# EAGLE library part TD6278*? (library SteMarie)
Toshiba 8-channel high voltage, high source current driver.
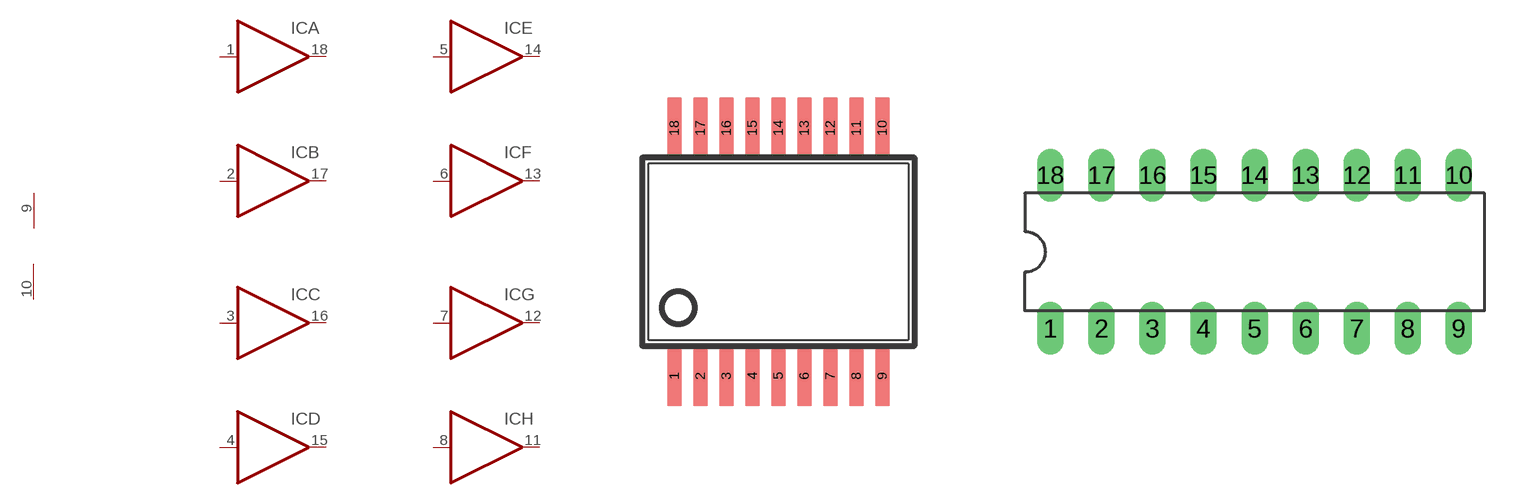
[diagram p4: symbol with the pads of SSOP18; footprints SSOP18, DIL18]

Designator prefix IC; gates A=BUFFER B=BUFFER C=BUFFER D=BUFFER PWR=PWR-VCC/GND E=BUFFER F=BUFFER G=BUFFER H=BUFFER

## TD62783AFNG (VINON: 5v), TD62784AFNG (VINON: 12v)  [SSOP18]
1  A:IN  in
2  B:IN  in
3  C:IN  in
4  D:IN  in
5  E:IN  in
6  F:IN  in
7  G:IN  in
8  H:IN  in
9  PWR:VCC  pwr
10  PWR:GND  pwr
11  H:OUT  out
12  G:OUT  out
13  F:OUT  out
14  E:OUT  out
15  D:OUT  out
16  C:OUT  out
17  B:OUT  out
18  A:OUT  out

## TD62783APG (VINON: 5v), TD62784APG (VINON: 12v)  [DIL18]
Pads as for SSOP18

## TD62783AFG (VINON: 5v), TD62784AFG (VINON: 12v)  [SO18L]
Pads as for SSOP18

## Footprint SSOP18 (pad centres in mm)
smd 0.35 x 1.5: 1 -2.6,-3.1; 2 -1.95,-3.1; 3 -1.3,-3.1; 4 -0.65,-3.1; 5 0,-3.1; 6 0.65,-3.1; 7 1.3,-3.1; 8 1.95,-3.1; 9 2.6,-3.1; 10 2.6,3.1; 11 1.95,3.1; 12 1.3,3.1; 13 0.65,3.1; 14 0,3.1; 15 -0.65,3.1; 16 -1.3,3.1; 17 -1.95,3.1; 18 -2.6,3.1

## Footprint DIL18 (pad centres in mm)
Dual In Line Package
drill 0.813 long: 1 -10.16,-3.81; 2 -7.62,-3.81; 3 -5.08,-3.81; 4 -2.54,-3.81; 5 0,-3.81; 6 2.54,-3.81; 7 5.08,-3.81; 8 7.62,-3.81; 9 10.16,-3.81; 10 10.16,3.81; 11 7.62,3.81; 12 5.08,3.81; 13 2.54,3.81; 14 0,3.81; 15 -2.54,3.81; 16 -5.08,3.81; 17 -7.62,3.81; 18 -10.16,3.81

## Footprint SO18L (pad centres in mm)
Small Outline Package
smd 0.66 x 2.032: 1 -5.08,-4.902; 2 -3.81,-4.902; 3 -2.54,-4.902; 4 -1.27,-4.902; 5 0,-4.902; 6 1.27,-4.902; 7 2.54,-4.902; 8 3.81,-4.902; 9 5.08,-4.902; 10 5.08,4.902; 11 3.81,4.902; 12 2.54,4.902; 13 1.27,4.902; 14 0,4.902; 15 -1.27,4.902; 16 -2.54,4.902; 17 -3.81,4.902; 18 -5.08,4.902